# Altium footprint library smoor2.PcbLib: 2 footprints
Each footprint in its own frame and in the unit in brackets; x right, y up, seen from the top. Pads: shape width x height; smd on the part's side, far side on the other; paste and mask are expansions set on the pad; w line width, h text height; cw(c..) or ccw(c..) is an arc to the next point about the centre after c.
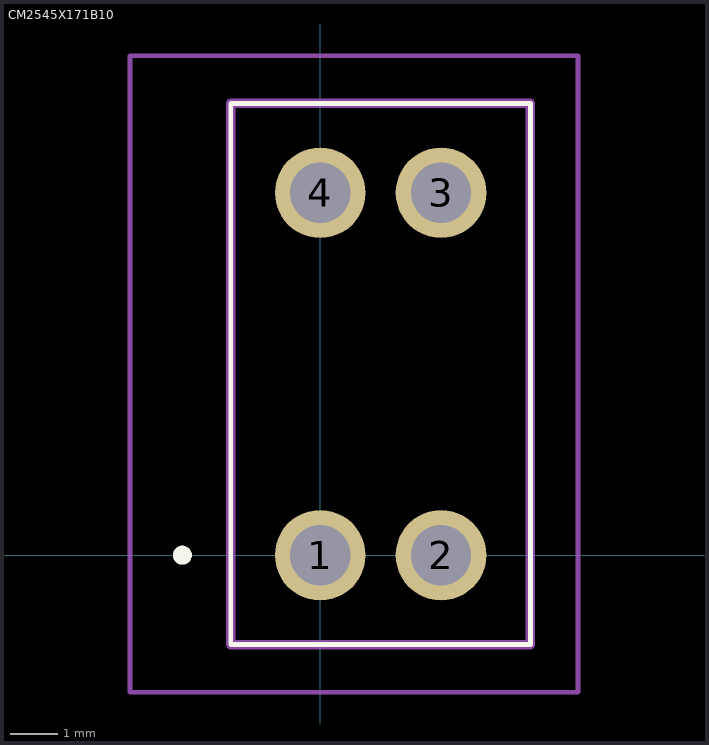
[diagram p0: the footprints below, top view; thin cyan lines are the x and y axes]

## CM2545X171B10 [mil]
pads (4):
  round 75 hole 50: 1(0,0) 2(100,0) 3(100,300) 4(0,300)
Top Overlay:
  lines w3.94: -74.02,-74.02 -74.02,374.02 174.02,374.02 174.02,-74.02 -74.02,-74.02
  lines w7.87: -118.11,0 cw(c-114.17,0) -110.24,0 cw(c-114.17,0) -118.11,0
Mechanical 13:
  lines w7.87: -74.02,-74.02 -74.02,374.02 174.02,374.02 174.02,-74.02 -74.02,-74.02
Mechanical 15:
  lines w3.94: -157.48,-113.39 -157.48,413.39 213.39,413.39 213.39,-113.39 -157.48,-113.39
3D body "CM2545X171B-10.stp": height 377.95, standoff -196.85, extent -74.02,-74.02 174.02,374.02

## PCBComponent_1 [mil]